# Altium footprint library led.PCBLIB: 37 footprints (part 3 of 3)
Each footprint in its own frame and in the unit in brackets; x right, y up, seen from the top. Pads: shape width x height; smd on the part's side, far side on the other; paste and mask are expansions set on the pad; w line width, h text height; cw(c..) or ccw(c..) is an arc to the next point about the centre after c.
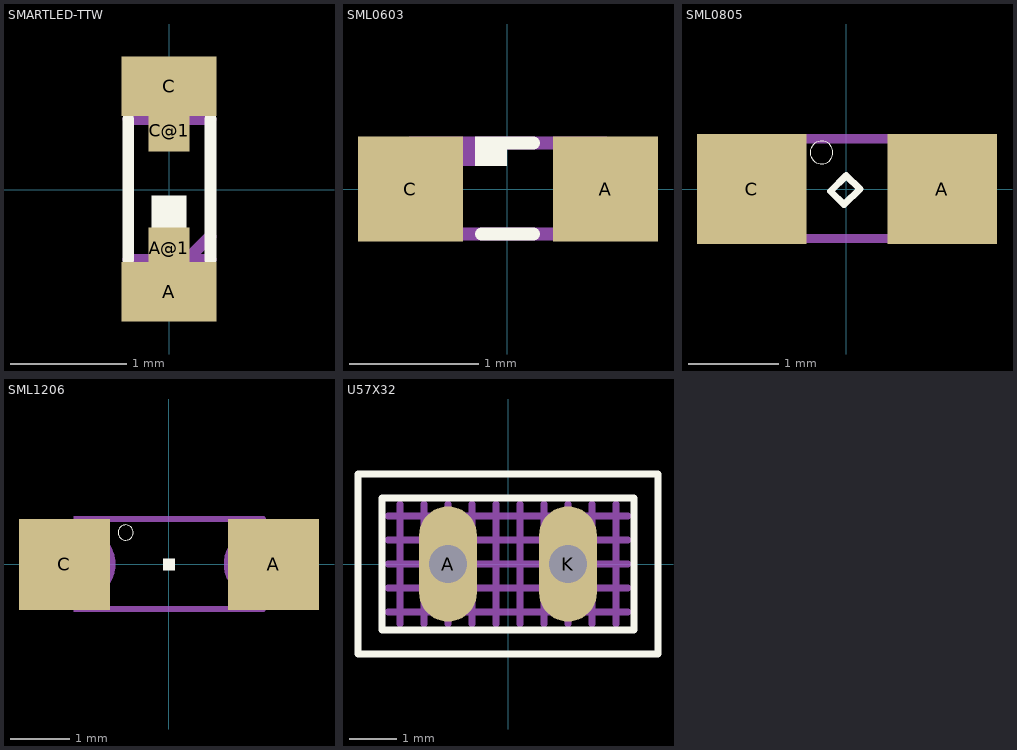
[diagram p2: the footprints below, top view; thin cyan lines are the x and y axes]

## SMARTLED-TTW [mil]
pads (4):
  rect 32x20 smd: A(0,-34.45) C(0,35)
  rect 14x14 smd: A@1(0,-19.68) C@1(0,20)
Top Overlay:
  rectangle: -5.91,-13.78 6,-1.97
  lines w4: -13.78,-23.62 -13.78,24 ; 14,-23.62 14,24
Top Paste:
  rectangle: -8.86,12 9,39
  region: 9,-11.81 -8.86,-11.81 -8.86,-38.39 9,-38.39
Top Solder:
  rectangle: -6.89,13 7,28
  region: 7,-12.8 -6.89,-12.8 -6.89,-27.56 7,-27.56
Mechanical 16:
  rectangle: -5.91,24 6,34
  rectangle: -5.91,-33.46 6,-23.62
  lines w4: -13.78,-23.62 6,-23.62 ; -13.78,24 14,24 ; 14,-23.62 6,-23.62 ; 14,-15.75 6,-23.62

## SML0603 [mil]
pads (2):
  rect 32x32 smd: A(30,0) C(-29.53,0)
Top Overlay:
  rectangle: -9.84,7 0,16
  lines w4: -7.87,-13.78 8,-13.78 ; -7.87,14 8,14
Mechanical 16:
  rectangle: -15.75,7 0,16
  lines w4: -17.72,-11.81 -17.72,12 ; 18,-11.81 18,12 ; -29.53,-13.78 30,-13.78 30,14 -29.53,14 -29.53,-13.78

## SML0805 [mil]
pads (2):
  rect 48x48 smd: A(42,0) C(-41.34,0)
Top Overlay:
  circle w0: c-10.83,16 r5
  lines w3: -6.89,-0.98 0,6 6,0 -0.98,-6.89 -6.89,-0.98
Mechanical 16:
  lines w4: -37.4,-21.65 38,-21.65 38,22 -37.4,22 -37.4,-21.65

## SML1206 [mil]
pads (2):
  rect 60x60 smd: A(69,0) C(-68.9,0)
Top Overlay:
  circle w0: c-28.54,21 r5
  rectangle: -3.94,-3.94 4,4
Mechanical 16:
  rectangle: -62.99,16 -45.28,32
  rectangle: -62.99,-31.5 -45.28,-15.75
  rectangle: -46.26,-23.62 -39.37,-10.83
  region: 63,-15.75 46,-15.75 46,-31.5 63,-31.5
  region: 63,32 46,32 46,16 63,16
  region: 47,24 40,24 40,11 47,11
  lines w4: -61.02,-29.53 62,-29.53 ; -61.02,30 62,30
  lines w8: -59.06,-19.69 ccw(c-59.06,0.16) -59.06,20 ; 60,-19.69 cw(c60,0.16) 60,20

## U57X32 [mil]
pads (2):
  oval 48x96 hole 32: A(-50,0) K(50,0)
Top Overlay:
  lines w6: -125,-75 125,-75 125,75 -125,75 -125,-75 ; -105,-55 105,-55 105,55 -105,55 -105,-55
Mechanical 16:
  lines w6: -100,-40 100,-40 ; -100,-20 100,-20 ; -100,0 100,0 ; -100,20 100,20 ; -100,40 100,40 ; -90,-50 -90,50 ; -70,-50 -70,50 ; -50,-50 -50,50 ; -30,-50 -30,50 ; -10,-50 -10,50 ; 10,-50 10,50 ; 30,-50 30,50 ; 50,-50 50,50 ; 70,-50 70,50 ; 90,-50 90,50